# Altium footprint library DO213AB.PcbLib: 1 footprints
Each footprint in its own frame and in the unit in brackets; x right, y up, seen from the top. Pads: shape width x height; smd on the part's side, far side on the other; paste and mask are expansions set on the pad; w line width, h text height; cw(c..) or ccw(c..) is an arc to the next point about the centre after c.
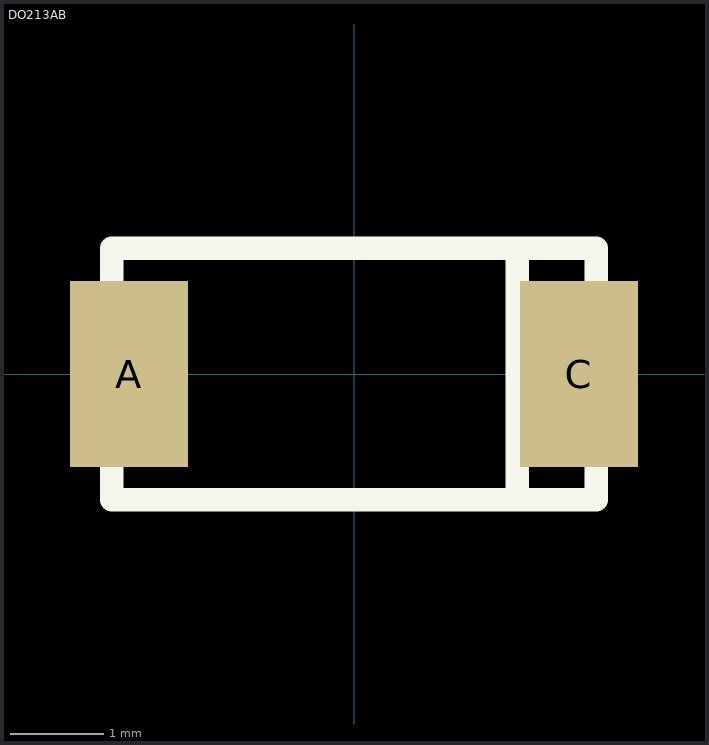
[diagram p0: the footprint, top view; thin cyan lines are the x and y axes]

## DO213AB [mil]
height 105.12
pads (2):
  rect 50x78.74 smd: A(-95,0) C(95,0)
Top Overlay:
  lines w10: 68.9,-53.15 68.9,53.15 ; -102.36,-53.15 -102.36,53.15 102.36,53.15 102.36,-53.15 -102.36,-53.15
3D body: height 103.74, standoff -1.38, extent -102.36,-55.12 102.36,50